# Altium schematic symbol library SI9987.SchLib: 1 symbol
Pins are listed as number, name and electrical type; pins without a type are passive.

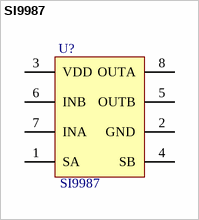
[diagram p0: symbol SI9987]

## SI9987
designator U?
Part Field 1: IC; Part Field 2: Buffered H Bridge; Part Field 3: SO8; Part Field 4: Vishay Siliconix; Part Field 5: Si9987DY; Part Field 6: 222-1209
footprint SO-8
pins: 1 SA, 2 GND, 3 VDD, 4 SB, 5 OUTB, 6 INB, 7 INA, 8 OUTA